# EAGLE library part GHI-BASICCOMPONENTS_RESISTOR.NETWORK-(4) (library PocketBeagle)
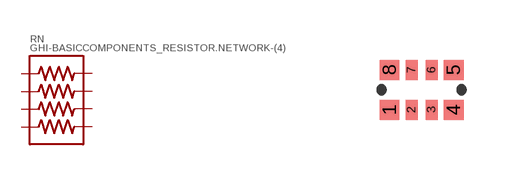
[diagram p6: symbol with the pads of GHI-BASICCOMPONENTS_RN0804; footprint GHI-BASICCOMPONENTS_RN0804]

Designator prefix RN

## GHI-BASICCOMPONENTS_RESISTOR.NETWORK-(4)  [GHI-BASICCOMPONENTS_RN0804]
1  1
2  2
3  3
4  4
5  5
6  6
7  7
8  8

## Footprint GHI-BASICCOMPONENTS_RN0804 (pad centres in mm)
smd 0.498 x 0.5: 1 -0.801,-0.5; 4 0.801,-0.5; 5 0.801,0.5; 8 -0.801,0.5
smd 0.3 x 0.5: 2 -0.25,-0.5; 3 0.25,-0.5; 6 0.25,0.5; 7 -0.25,0.5